# Altium schematic symbol library SCH - MCU - NUVOTON - NUVOTON M032BTAIAAN.SchLib: 1 symbol
Pins are listed as number, name and electrical type; pins without a type are passive.

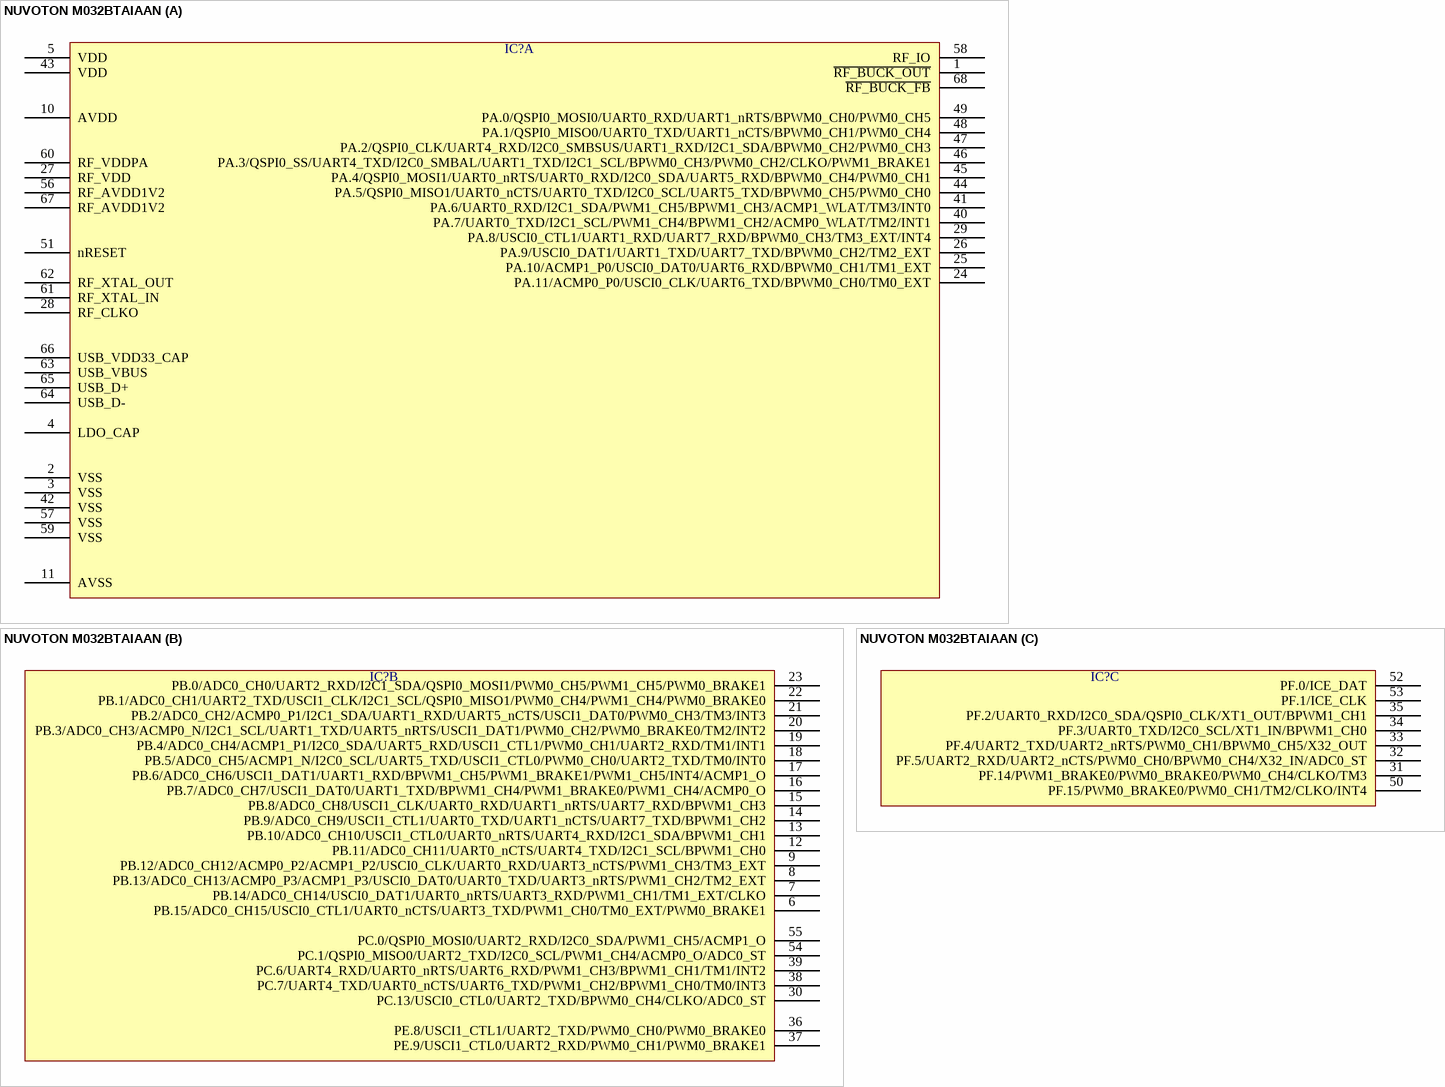
[diagram p0: symbol NUVOTON M032BTAIAAN]

## NUVOTON M032BTAIAAN
designator IC?  (value not drawn)
part A pins: 1 ~{RF_BUCK_OUT}, 2 VSS, 3 VSS, 4 LDO_CAP, 5 VDD, 10 AVDD, 11 AVSS, 24 PA.11/ACMP0_P0/USCI0_CLK/UART6_TXD/BPWM0_CH0/TM0_EXT, 25 PA.10/ACMP1_P0/USCI0_DAT0/UART6_RXD/BPWM0_CH1/TM1_EXT, 26 PA.9/USCI0_DAT1/UART1_TXD/UART7_TXD/BPWM0_CH2/TM2_EXT, 27 RF_VDD, 28 RF_CLKO, 29 PA.8/USCI0_CTL1/UART1_RXD/UART7_RXD/BPWM0_CH3/TM3_EXT/INT4, 40 PA.7/UART0_TXD/I2C1_SCL/PWM1_CH4/BPWM1_CH2/ACMP0_WLAT/TM2/INT1, 41 PA.6/UART0_RXD/I2C1_SDA/PWM1_CH5/BPWM1_CH3/ACMP1_WLAT/TM3/INT0, 42 VSS, 43 VDD, 44 PA.5/QSPI0_MISO1/UART0_nCTS/UART0_TXD/I2C0_SCL/UART5_TXD/BPWM0_CH5/PWM0_CH0, 45 PA.4/QSPI0_MOSI1/UART0_nRTS/UART0_RXD/I2C0_SDA/UART5_RXD/BPWM0_CH4/PWM0_CH1, 46 PA.3/QSPI0_SS/UART4_TXD/I2C0_SMBAL/UART1_TXD/I2C1_SCL/BPWM0_CH3/PWM0_CH2/CLKO/PWM1_BRAKE1, 47 PA.2/QSPI0_CLK/UART4_RXD/I2C0_SMBSUS/UART1_RXD/I2C1_SDA/BPWM0_CH2/PWM0_CH3, 48 PA.1/QSPI0_MISO0/UART0_TXD/UART1_nCTS/BPWM0_CH1/PWM0_CH4, 49 PA.0/QSPI0_MOSI0/UART0_RXD/UART1_nRTS/BPWM0_CH0/PWM0_CH5, 51 nRESET, 56 RF_AVDD1V2, 57 VSS, 58 RF_IO, 59 VSS, 60 RF_VDDPA, 61 RF_XTAL_IN, 62 RF_XTAL_OUT, 63 USB_VBUS, 64 USB_D-, 65 USB_D+, 66 USB_VDD33_CAP, 67 RF_AVDD1V2, 68 ~{RF_BUCK_FB}
part B pins: 6 PB.15/ADC0_CH15/USCI0_CTL1/UART0_nCTS/UART3_TXD/PWM1_CH0/TM0_EXT/PWM0_BRAKE1, 7 PB.14/ADC0_CH14/USCI0_DAT1/UART0_nRTS/UART3_RXD/PWM1_CH1/TM1_EXT/CLKO, 8 PB.13/ADC0_CH13/ACMP0_P3/ACMP1_P3/USCI0_DAT0/UART0_TXD/UART3_nRTS/PWM1_CH2/TM2_EXT, 9 PB.12/ADC0_CH12/ACMP0_P2/ACMP1_P2/USCI0_CLK/UART0_RXD/UART3_nCTS/PWM1_CH3/TM3_EXT, 12 PB.11/ADC0_CH11/UART0_nCTS/UART4_TXD/I2C1_SCL/BPWM1_CH0, 13 PB.10/ADC0_CH10/USCI1_CTL0/UART0_nRTS/UART4_RXD/I2C1_SDA/BPWM1_CH1, 14 PB.9/ADC0_CH9/USCI1_CTL1/UART0_TXD/UART1_nCTS/UART7_TXD/BPWM1_CH2, 15 PB.8/ADC0_CH8/USCI1_CLK/UART0_RXD/UART1_nRTS/UART7_RXD/BPWM1_CH3, 16 PB.7/ADC0_CH7/USCI1_DAT0/UART1_TXD/BPWM1_CH4/PWM1_BRAKE0/PWM1_CH4/ACMP0_O, 17 PB.6/ADC0_CH6/USCI1_DAT1/UART1_RXD/BPWM1_CH5/PWM1_BRAKE1/PWM1_CH5/INT4/ACMP1_O, 18 PB.5/ADC0_CH5/ACMP1_N/I2C0_SCL/UART5_TXD/USCI1_CTL0/PWM0_CH0/UART2_TXD/TM0/INT0, 19 PB.4/ADC0_CH4/ACMP1_P1/I2C0_SDA/UART5_RXD/USCI1_CTL1/PWM0_CH1/UART2_RXD/TM1/INT1, 20 PB.3/ADC0_CH3/ACMP0_N/I2C1_SCL/UART1_TXD/UART5_nRTS/USCI1_DAT1/PWM0_CH2/PWM0_BRAKE0/TM2/INT2, 21 PB.2/ADC0_CH2/ACMP0_P1/I2C1_SDA/UART1_RXD/UART5_nCTS/USCI1_DAT0/PWM0_CH3/TM3/INT3, 22 PB.1/ADC0_CH1/UART2_TXD/USCI1_CLK/I2C1_SCL/QSPI0_MISO1/PWM0_CH4/PWM1_CH4/PWM0_BRAKE0, 23 PB.0/ADC0_CH0/UART2_RXD/I2C1_SDA/QSPI0_MOSI1/PWM0_CH5/PWM1_CH5/PWM0_BRAKE1, 30 PC.13/USCI0_CTL0/UART2_TXD/BPWM0_CH4/CLKO/ADC0_ST, 36 PE.8/USCI1_CTL1/UART2_TXD/PWM0_CH0/PWM0_BRAKE0, 37 PE.9/USCI1_CTL0/UART2_RXD/PWM0_CH1/PWM0_BRAKE1, 38 PC.7/UART4_TXD/UART0_nCTS/UART6_TXD/PWM1_CH2/BPWM1_CH0/TM0/INT3, 39 PC.6/UART4_RXD/UART0_nRTS/UART6_RXD/PWM1_CH3/BPWM1_CH1/TM1/INT2, 54 PC.1/QSPI0_MISO0/UART2_TXD/I2C0_SCL/PWM1_CH4/ACMP0_O/ADC0_ST, 55 PC.0/QSPI0_MOSI0/UART2_RXD/I2C0_SDA/PWM1_CH5/ACMP1_O
part C pins: 31 PF.14/PWM1_BRAKE0/PWM0_BRAKE0/PWM0_CH4/CLKO/TM3, 32 PF.5/UART2_RXD/UART2_nCTS/PWM0_CH0/BPWM0_CH4/X32_IN/ADC0_ST, 33 PF.4/UART2_TXD/UART2_nRTS/PWM0_CH1/BPWM0_CH5/X32_OUT, 34 PF.3/UART0_TXD/I2C0_SCL/XT1_IN/BPWM1_CH0, 35 PF.2/UART0_RXD/I2C0_SDA/QSPI0_CLK/XT1_OUT/BPWM1_CH1, 50 PF.15/PWM0_BRAKE0/PWM0_CH1/TM2/CLKO/INT4, 52 PF.0/ICE_DAT, 53 PF.1/ICE_CLK